# Altium footprint library JST PH Connectors.PcbLib: 59 footprints (part 1 of 4)
Each footprint in its own frame and in the unit in brackets; x right, y up, seen from the top. Pads: shape width x height; smd on the part's side, far side on the other; paste and mask are expansions set on the pad; w line width, h text height; cw(c..) or ccw(c..) is an arc to the next point about the centre after c.
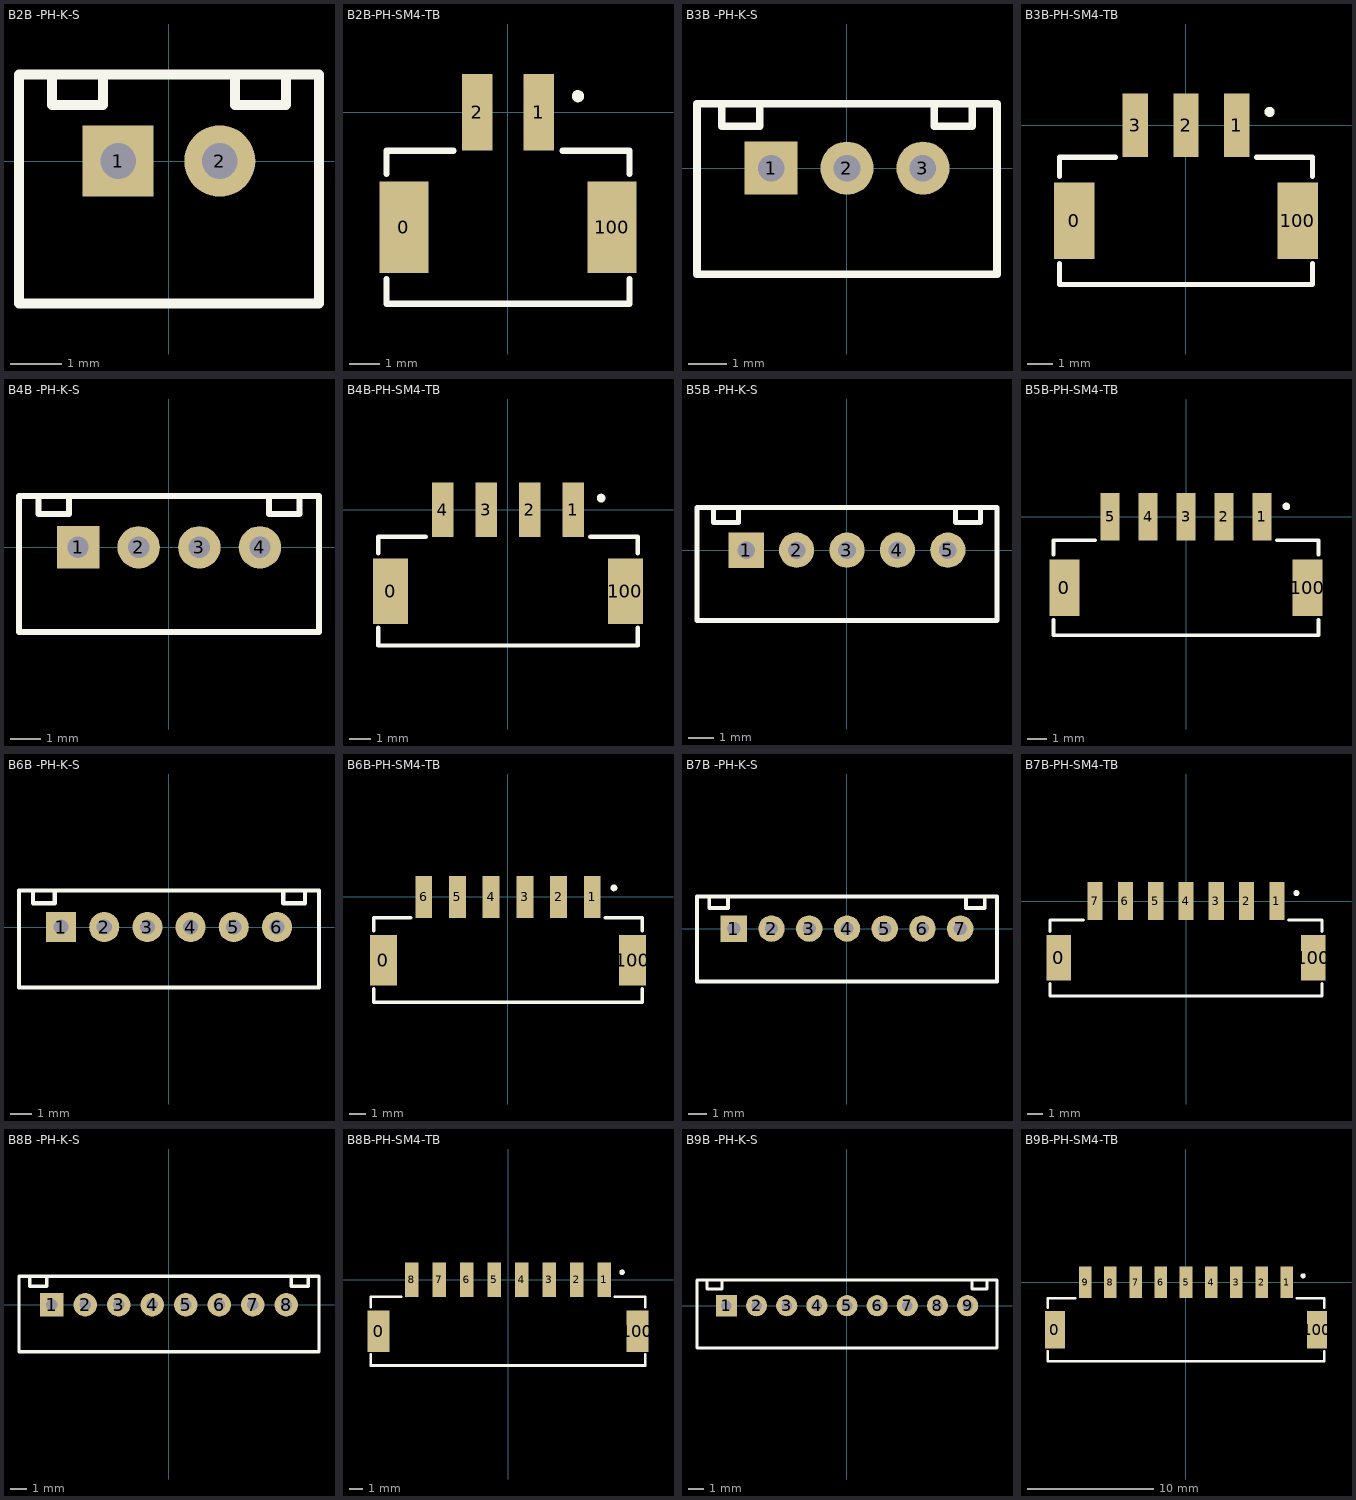
[diagram p0: the footprints below, top view; thin cyan lines are the x and y axes]

## B2B -PH-K-S [mm]
pads (2):
  rect 1.4x1.4 hole 0.7: 1(-1,0)
  round 1.4 hole 0.7: 2(1,0)
Top Overlay:
  lines w0.2: -2.3,1.7 -2.3,1.1 -1.3,1.1 -1.3,1.7 ; 1.3,1.7 1.3,1.1 2.3,1.1 2.3,1.7 ; -2.95,-2.8 -2.95,1.7 2.95,1.7 2.95,-2.8 -2.95,-2.8
3D body "B2B-PH-K-S.STEP": height 6.01, standoff -3.39, extent -2.95,-2.8 2.95,1.7

## B2B-PH-SM4-TB [mm]
pads (4):
  rect 1.6x3 smd: 0(-3.4,-3.75) 100(3.4,-3.75)
  rect 1x2.5 smd: 1(1,0) 2(-1,0)
Top Overlay:
  circle w0.2: c2.286,0.532 r0.1
  lines w0.2: -3.975,-5.437 -3.975,-6.25 3.975,-6.25 3.975,-5.437 ; -3.975,-2.008 -3.975,-1.25 -1.778,-1.25 ; 1.778,-1.25 3.975,-1.25 3.975,-2.008
3D body "B2B-PH-SM4-TB.STEP": height 6.61, standoff 0.01, extent -3.975,-6.25 3.975,0.75

## B3B -PH-K-S [mm]
pads (3):
  rect 1.4x1.4 hole 0.7: 1(-2,0)
  round 1.4 hole 0.7: 2(0,0) 3(2,0)
Top Overlay:
  lines w0.2: -3.3,1.7 -3.3,1.1 -2.3,1.1 -2.3,1.7 ; 2.3,1.7 2.3,1.1 3.3,1.1 3.3,1.7 ; -3.95,-2.8 3.95,-2.8 3.95,1.7 -3.95,1.7 -3.95,-2.8
3D body "B3B-PH-K-S.STEP": height 6.01, standoff -3.39, extent -3.95,-2.8 3.95,1.7

## B3B-PH-SM4-TB [mm]
pads (5):
  rect 1.6x3 smd: 0(-4.4,-3.75) 100(4.4,-3.75)
  rect 1x2.5 smd: 1(2,0) 2(0,0) 3(-2,0)
Top Overlay:
  circle w0.2: c3.286,0.532 r0.1
  lines w0.2: -4.975,-5.437 -4.975,-6.25 4.975,-6.25 4.975,-5.437 ; -4.975,-2.008 -4.975,-1.25 -2.778,-1.25 ; 2.778,-1.25 4.975,-1.25 4.975,-2.008
3D body "B3B-PH-SM4-TB.STEP": height 6.61, standoff 0.01, extent -4.975,-6.25 4.975,0.75

## B4B -PH-K-S [mm]
pads (4):
  rect 1.4x1.4 hole 0.7: 1(-3,0)
  round 1.4 hole 0.7: 2(-1,0) 3(1,0) 4(3,0)
Top Overlay:
  lines w0.2: -4.3,1.7 -4.3,1.1 -3.3,1.1 -3.3,1.7 ; 3.3,1.7 3.3,1.1 4.3,1.1 4.3,1.7 ; -4.95,-2.8 4.95,-2.8 4.95,1.7 -4.95,1.7 -4.95,-2.8
3D body "B4B-PH-K-S.STEP": height 6.01, standoff -3.39, extent -4.95,-2.8 4.95,1.7

## B4B-PH-SM4-TB [mm]
pads (6):
  rect 1.6x3 smd: 0(-5.4,-3.75) 100(5.4,-3.75)
  rect 1x2.5 smd: 1(3,0) 2(1,0) 3(-1,0) 4(-3,0)
Top Overlay:
  circle w0.2: c4.286,0.532 r0.1
  lines w0.2: -5.975,-5.437 -5.975,-6.25 5.975,-6.25 5.975,-5.437 ; -5.975,-2.008 -5.975,-1.25 -3.778,-1.25 ; 3.778,-1.25 5.975,-1.25 5.975,-2.008
3D body "B4B-PH-SM4-TB.STEP": height 6.61, standoff 0.01, extent -5.975,-6.25 5.975,0.75

## B5B -PH-K-S [mm]
pads (5):
  rect 1.4x1.4 hole 0.7: 1(-4,0)
  round 1.4 hole 0.7: 2(-2,0) 3(0,0) 4(2,0) 5(4,0)
Top Overlay:
  lines w0.2: -5.3,1.7 -5.3,1.1 -4.3,1.1 -4.3,1.7 ; 4.3,1.7 4.3,1.1 5.3,1.1 5.3,1.7 ; -5.95,-2.8 5.95,-2.8 5.95,1.7 -5.95,1.7 -5.95,-2.8
3D body "B5B-PH-K-S.STEP": height 6.01, standoff -3.39, extent -5.95,-2.8 5.95,1.7

## B5B-PH-SM4-TB [mm]
pads (7):
  rect 1.6x3 smd: 0(-6.4,-3.75) 100(6.4,-3.75)
  rect 1x2.5 smd: 1(4,0) 2(2,0) 3(0,0) 4(-2,0) 5(-4,0)
Top Overlay:
  circle w0.2: c5.286,0.532 r0.1
  lines w0.2: -6.975,-5.437 -6.975,-6.25 6.975,-6.25 6.975,-5.437 ; -6.975,-2.008 -6.975,-1.25 -4.778,-1.25 ; 4.778,-1.25 6.975,-1.25 6.975,-2.008
3D body "B5B-PH-SM4-TB.STEP": height 6.61, standoff 0.01, extent -6.975,-6.25 6.975,0.75

## B6B -PH-K-S [mm]
pads (6):
  rect 1.4x1.4 hole 0.7: 1(-5,0)
  round 1.4 hole 0.7: 2(-3,0) 3(-1,0) 4(1,0) 5(3,0) 6(5,0)
Top Overlay:
  lines w0.2: -6.3,1.7 -6.3,1.1 -5.3,1.1 -5.3,1.7 ; 5.3,1.7 5.3,1.1 6.3,1.1 6.3,1.7 ; -6.95,-2.8 6.95,-2.8 6.95,1.7 -6.95,1.7 -6.95,-2.8
3D body "B6B-PH-K-S.STEP": height 6.01, standoff -3.39, extent -6.95,-2.8 6.95,1.7

## B6B-PH-SM4-TB [mm]
pads (8):
  rect 1.6x3 smd: 0(-7.4,-3.75) 100(7.4,-3.75)
  rect 1x2.5 smd: 1(5,0) 2(3,0) 3(1,0) 4(-1,0) 5(-3,0) 6(-5,0)
Top Overlay:
  circle w0.2: c6.286,0.532 r0.1
  lines w0.2: -7.975,-5.437 -7.975,-6.25 7.975,-6.25 7.975,-5.437 ; -7.975,-2.008 -7.975,-1.25 -5.778,-1.25 ; 5.778,-1.25 7.975,-1.25 7.975,-2.008
3D body "B6B-PH-SM4-TB.STEP": height 6.61, standoff 0.01, extent -7.975,-6.25 7.975,0.75

## B7B -PH-K-S [mm]
pads (7):
  rect 1.4x1.4 hole 0.7: 1(-6,0)
  round 1.4 hole 0.7: 2(-4,0) 3(-2,0) 4(0,0) 5(2,0) 6(4,0) 7(6,0)
Top Overlay:
  lines w0.2: -7.3,1.7 -7.3,1.1 -6.3,1.1 -6.3,1.7 ; 6.3,1.7 6.3,1.1 7.3,1.1 7.3,1.7 ; -7.95,-2.8 7.95,-2.8 7.95,1.7 -7.95,1.7 -7.95,-2.8
3D body "B7B-PH-K-S.STEP": height 6.01, standoff -3.39, extent -7.95,-2.8 7.95,1.7

## B7B-PH-SM4-TB [mm]
pads (9):
  rect 1.6x3 smd: 0(-8.4,-3.75) 100(8.4,-3.75)
  rect 1x2.5 smd: 1(6,0) 2(4,0) 3(2,0) 4(0,0) 5(-2,0) 6(-4,0) 7(-6,0)
Top Overlay:
  circle w0.2: c7.286,0.532 r0.1
  lines w0.2: -8.975,-5.437 -8.975,-6.25 8.975,-6.25 8.975,-5.437 ; -8.975,-2.008 -8.975,-1.25 -6.778,-1.25 ; 6.778,-1.25 8.975,-1.25 8.975,-2.008
3D body "B7B-PH-SM4-TB.STEP": height 6.61, standoff 0.01, extent -8.975,-6.25 8.975,0.75

## B8B -PH-K-S [mm]
pads (8):
  rect 1.4x1.4 hole 0.7: 1(-7,0)
  round 1.4 hole 0.7: 2(-5,0) 3(-3,0) 4(-1,0) 5(1,0) 6(3,0) 7(5,0) 8(7,0)
Top Overlay:
  lines w0.2: -8.3,1.7 -8.3,1.1 -7.3,1.1 -7.3,1.7 ; 7.3,1.7 7.3,1.1 8.3,1.1 8.3,1.7 ; -8.95,-2.8 8.95,-2.8 8.95,1.7 -8.95,1.7 -8.95,-2.8
3D body "B8B-PH-K-S.STEP": height 6.01, standoff -3.39, extent -8.95,-2.8 8.95,1.7

## B8B-PH-SM4-TB [mm]
pads (10):
  rect 1.6x3 smd: 0(-9.4,-3.75) 100(9.4,-3.75)
  rect 1x2.5 smd: 1(7,0) 2(5,0) 3(3,0) 4(1,0) 5(-1,0) 6(-3,0) 7(-5,0) 8(-7,0)
Top Overlay:
  circle w0.2: c8.286,0.532 r0.1
  lines w0.2: -9.975,-5.437 -9.975,-6.25 9.975,-6.25 9.975,-5.437 ; -9.975,-2.008 -9.975,-1.25 -7.778,-1.25 ; 7.778,-1.25 9.975,-1.25 9.975,-2.008
3D body "B8B-PH-SM4-TB.STEP": height 6.61, standoff 0.01, extent -9.975,-6.25 9.975,0.75

## B9B -PH-K-S [mm]
pads (9):
  rect 1.4x1.4 hole 0.7: 1(-8,0)
  round 1.4 hole 0.7: 2(-6,0) 3(-4,0) 4(-2,0) 5(0,0) 6(2,0) 7(4,0) 8(6,0) 9(8,0)
Top Overlay:
  lines w0.2: -9.3,1.7 -9.3,1.1 -8.3,1.1 -8.3,1.7 ; 8.3,1.7 8.3,1.1 9.3,1.1 9.3,1.7 ; -9.95,-2.8 9.95,-2.8 9.95,1.7 -9.95,1.7 -9.95,-2.8
3D body "B9B-PH-K-S.STEP": height 6.01, standoff -3.39, extent -9.95,-2.8 9.95,1.7

## B9B-PH-SM4-TB [mm]
pads (11):
  rect 1.6x3 smd: 0(-10.4,-3.75) 100(10.4,-3.75)
  rect 1x2.5 smd: 1(8,0) 2(6,0) 3(4,0) 4(2,0) 5(0,0) 6(-2,0) 7(-4,0) 8(-6,0) 9(-8,0)
Top Overlay:
  circle w0.2: c9.286,0.532 r0.1
  lines w0.2: -10.975,-5.437 -10.975,-6.25 10.975,-6.25 10.975,-5.437 ; -10.975,-2.008 -10.975,-1.25 -8.778,-1.25 ; 8.778,-1.25 10.975,-1.25 10.975,-2.008
3D body "B9B-PH-SM4-TB.STEP": height 6.61, standoff 0.01, extent -10.975,-6.25 10.975,0.75